# Altium footprint library PcbLib1.PcbLib: 1 footprints
Each footprint in its own frame and in the unit in brackets; x right, y up, seen from the top. Pads: shape width x height; smd on the part's side, far side on the other; paste and mask are expansions set on the pad; w line width, h text height; cw(c..) or ccw(c..) is an arc to the next point about the centre after c.
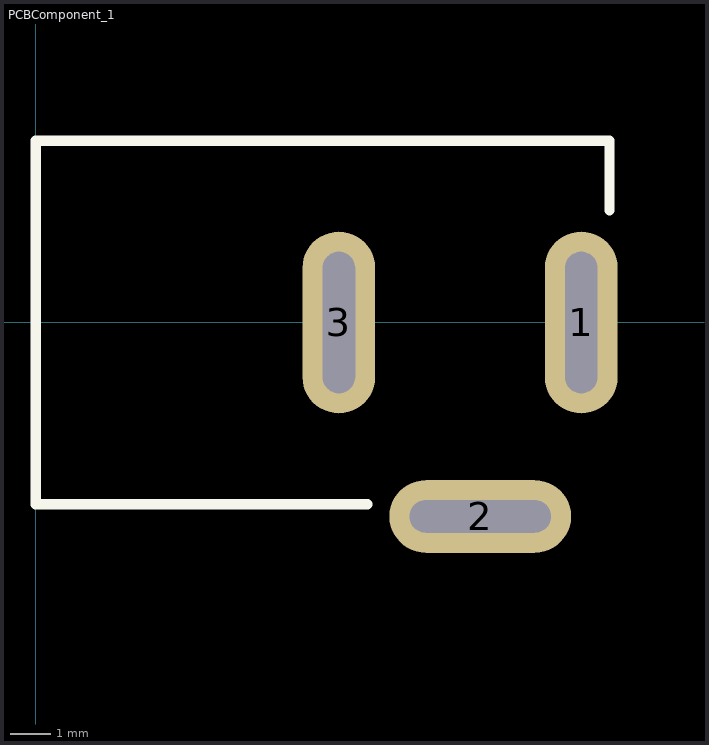
[diagram p0: the footprint, top view; thin cyan lines are the x and y axes]

## PCBComponent_1 [mm]
pads (3):
  oval 1.8x4.5 hole 0.8 slot 3.5 at 90 deg: 1(13.5,0) 3(7.5,0)
  oval 4.5x1.8 hole 0.8 slot 3.5 at 0 deg: 2(11,-4.8)
Top Overlay:
  lines w0.254: 8.2,-4.5 0,-4.5 0,4.5 14.2,4.5 ; 13.5,1.4 14.2,0.7 ; 13.5,4.5 14.2,4.5 ; 14.2,2.77 14.2,4.5